# EAGLE library part A6275EA-T (library Allegro_By_element14_Batch_1)
8-Bit Serial Input Constant-Current Latched LED Driver
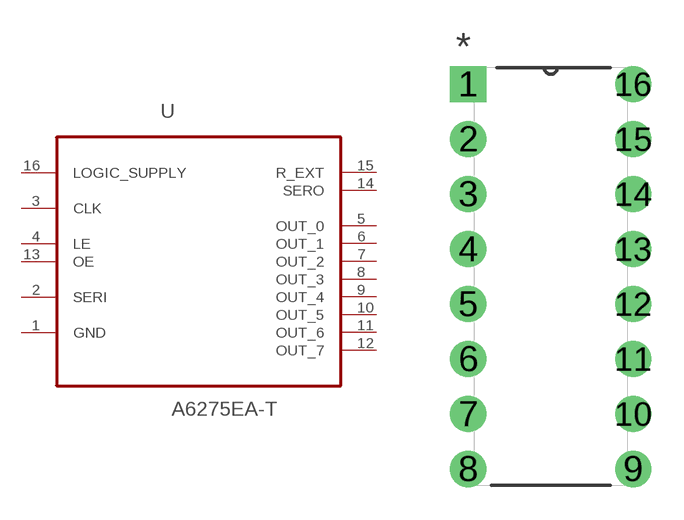
[diagram p19: symbol with the pads of DIP254P762X533-16; footprint DIP254P762X533-16]

Designator prefix U

## A6275EA-T (MPN: A6275EA-T; OC_FARNELL: 1193490; OC_NEWARK: 87K3395; PACKAGE: PDIP-16; SUPPLIER: Allegro)  [DIP254P762X533-16]
1  GND  pas
2  SERI  in
3  CLK  in
4  LE  in
5  OUT_0  out
6  OUT_1  out
7  OUT_2  out
8  OUT_3  out
9  OUT_4  out
10  OUT_5  out
11  OUT_6  out
12  OUT_7  out
13  OE  in
14  SERO  out
15  R_EXT  pas
16  LOGIC_SUPPLY  pwr

## Footprint DIP254P762X533-16 (pad centres in mm)
drill 1.118 square: 1 -7.62,17.78
drill 1.118: 2 -7.62,15.24; 3 -7.62,12.7; 4 -7.62,10.16; 5 -7.62,7.62; 6 -7.62,5.08; 7 -7.62,2.54; 8 -7.62,0; 9 0,0; 10 0,2.54; 11 0,5.08; 12 0,7.62; 13 0,10.16; 14 0,12.7; 15 0,15.24; 16 0,17.78